# Altium schematic symbol library resistor.SchLib: 9 symbols
Pins are listed as number, name and electrical type; pins without a type are passive.

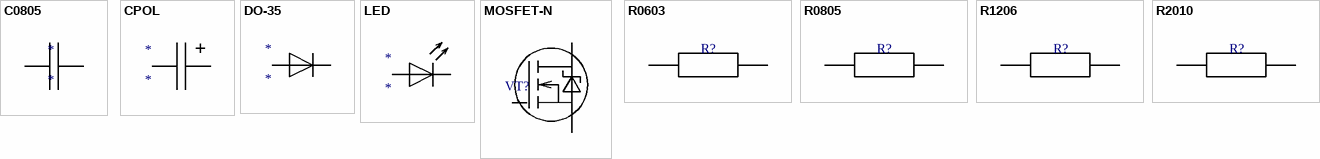
[diagram p0: symbols C0805 to R2010]

## C0805
designator *
footprint C0805
pins: 1, 2

## CPOL
designator *
pins: 1, 2

## DO-35
designator *
footprint DO-35
pins: 1, 2

## LED
designator *
pins: 1, 2

## MOSFET-N
designator VT?  (value not drawn)
footprint SOT-23
pins: 1 g, 2 s, 3 d

## R0603
designator R?  (value not drawn)
footprint R0603
pins: 1, 2

## R0805
designator R?  (value not drawn)
footprint R1206
footprint R0805
pins: 1, 2

## R1206
designator R?  (value not drawn)
footprint R1206
pins: 1, 2

## R2010
designator R?  (value not drawn)
footprint R2010
pins: 1, 2